# EAGLE library part CARD_EDGE_60_MALE (library 838_Components)
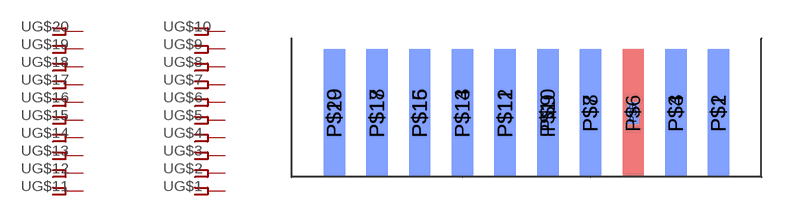
[diagram p23: symbol with the pads of CARD_EDGE_20_MALE; footprint CARD_EDGE_20_MALE]

Designator prefix -; gates G$1=FPINV G$2=FPINV G$3=FPINV G$4=FPINV G$5=FPINV G$6=FPINV G$7=FPINV G$8=FPINV G$9=FPINV G$10=FPINV G$11=FPINV G$12=FPINV G$13=FPINV G$14=FPINV G$15=FPINV G$16=FPINV G$17=FPINV G$18=FPINV G$19=FPINV G$20=FPINV

## CARD_EDGE_60_MALE  [CARD_EDGE_20_MALE]
P$1  G$1:1  pas
P$2  G$2:1  pas
P$3  G$3:1  pas
P$4  G$4:1  pas
P$5  G$5:1  pas
P$6  G$6:1  pas
P$7  G$7:1  pas
P$8  G$8:1  pas
P$9  G$9:1  pas
P$10  G$10:1  pas
P$11  G$11:1  pas
P$12  G$12:1  pas
P$13  G$13:1  pas
P$14  G$14:1  pas
P$15  G$15:1  pas
P$16  G$16:1  pas
P$17  G$17:1  pas
P$18  G$18:1  pas
P$19  G$19:1  pas
P$20  G$20:1  pas

## Footprint CARD_EDGE_20_MALE (pad centres in mm)
smd 1.27 x 7.62 bottom: P$1 22.86,3.81; P$3 20.32,3.81; P$7 15.24,3.81; P$9 12.7,3.81; P$11 10.16,3.81; P$13 7.62,3.81; P$15 5.08,3.81; P$17 2.54,3.81; P$19 0,3.81
smd 1.27 x 7.62: P$2 22.86,3.81; P$4 20.32,3.81; P$6 17.78,3.81; P$8 15.24,3.81; P$10 12.7,3.81; P$12 10.16,3.81; P$14 7.62,3.81; P$16 5.08,3.81; P$18 2.54,3.81; P$20 0,3.81
smd 0.635 x 1.27 bottom: P$5 17.78,3.81